# Altium footprint library DFN8-SPE-MR25H40.PcbLib: 1 footprints
Each footprint in its own frame and in the unit in brackets; x right, y up, seen from the top. Pads: shape width x height; smd on the part's side, far side on the other; paste and mask are expansions set on the pad; w line width, h text height; cw(c..) or ccw(c..) is an arc to the next point about the centre after c.
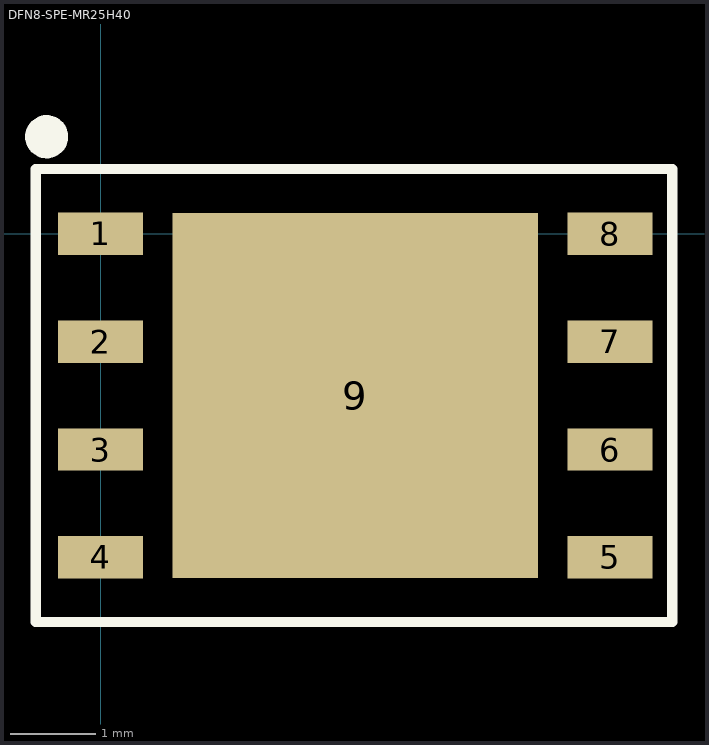
[diagram p0: the footprint, top view; thin cyan lines are the x and y axes]

## DFN8-SPE-MR25H40 [mm]
pads (9):
  rect 1x0.5 smd: 1(0,0) 2(0,-1.27) 3(0,-2.54) 4(0,-3.81) 5(6,-3.81) 6(6,-2.54) 7(6,-1.27) 8(6,0)
  rect 4.3x4.3 smd paste-1: 9(3,-1.905)
Top Overlay:
  circle w0.254: c-0.635,1.143 r0.127
  lines w0.12: -0.762,-4.572 6.731,-4.572 6.731,0.762 -0.762,0.762 -0.762,-4.572
3D body: height 1, standoff 0, extent -0.127,-4.445 6.096,0.635